# Altium footprint library MainLibrary.PcbLib: 8 footprints
Each footprint in its own frame and in the unit in brackets; x right, y up, seen from the top. Pads: shape width x height; smd on the part's side, far side on the other; paste and mask are expansions set on the pad; w line width, h text height; cw(c..) or ccw(c..) is an arc to the next point about the centre after c.
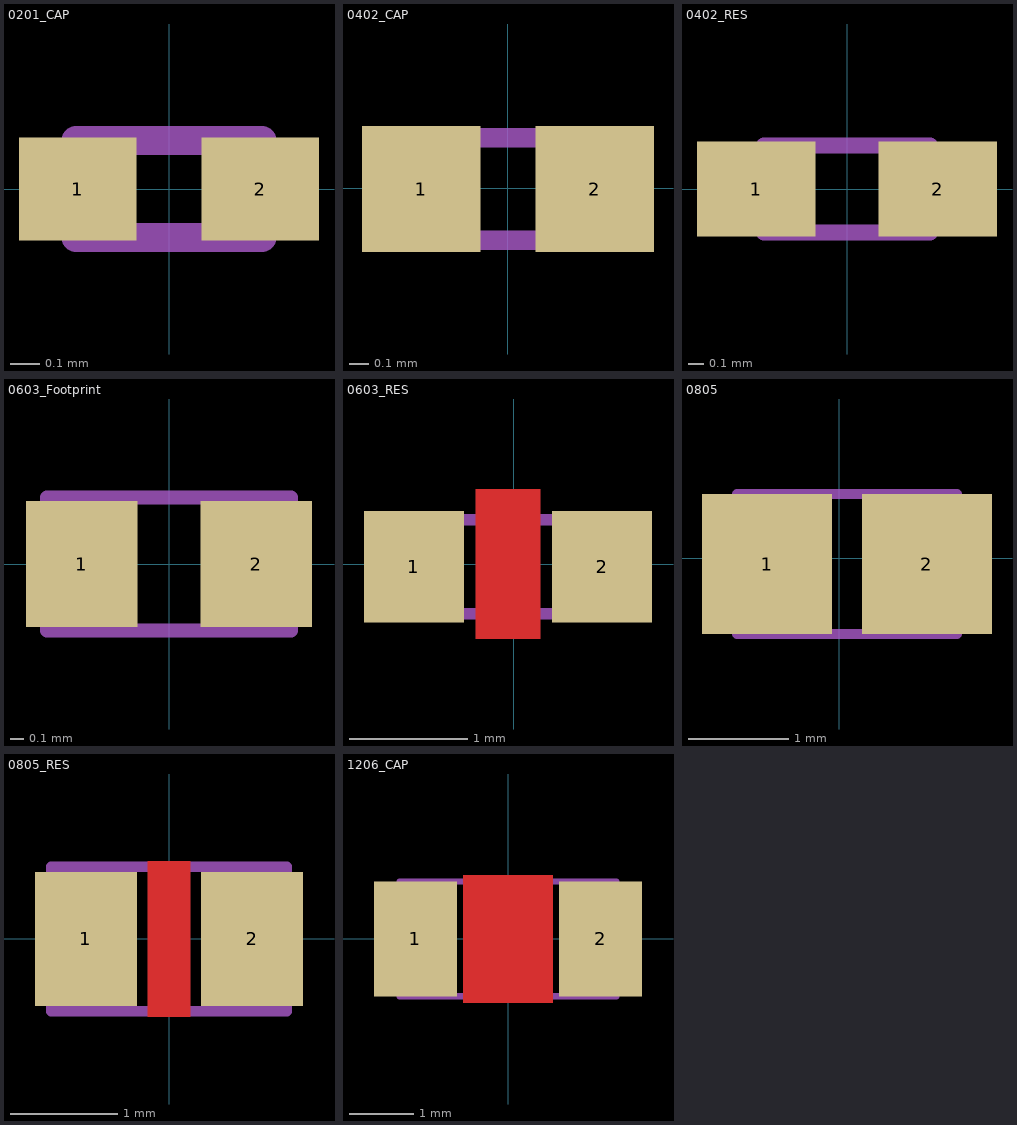
[diagram p0: the footprints below, top view; thin cyan lines are the x and y axes]

## 0201_CAP [mm]
pads (2):
  rect 0.4x0.35 smd: 1(-0.31,0) 2(0.31,0)
Mechanical 13:
  lines w0.1: -0.315,-0.165 0.315,-0.165 0.315,0.165 -0.315,0.165 -0.315,-0.165
3D body "CAP 0201.STEP": height 0.3, standoff 0, extent -0.3,-0.15 0.3,0.15

## 0402_CAP [mm]
pads (2):
  rect 0.6x0.64 smd: 1(-0.44,-0.005) 2(0.44,-0.005)
Mechanical 13:
  lines w0.1: -0.515,-0.265 0.515,-0.265 0.515,0.255 -0.515,0.255 -0.515,-0.265
3D body "0402 cap.STEP": height 0.52, standoff 0, extent -0.5,-0.267 0.5,0.257

## 0402_RES [mm]
pads (2):
  rect 0.75x0.6 smd: 1(-0.575,0) 2(0.575,0)
Mechanical 13:
  lines w0.1: -0.525,-0.275 -0.525,0.275 0.525,0.275 0.525,-0.275 -0.525,-0.275
3D body "0402 resistor.STEP": height 0.35, standoff 0, extent -0.5,-0.25 0.5,0.25

## 0603_Footprint [mm]
pads (2):
  rect 0.8x0.9 smd: 1(-0.625,0) 2(0.625,0)
Mechanical 13:
  lines w0.1: -0.875,-0.475 0.875,-0.475 0.875,0.475 -0.875,0.475 -0.875,-0.475
3D body "0603 cap.STEP": height 0.82, standoff 0, extent -0.8,-0.412 0.8,0.412

## 0603_RES [mm]
pads (2):
  rect 0.85x0.95 smd: 1(-0.85,-0.023) 2(0.75,-0.023)
Top Layer:
  pour cut-out: -0.322,0.635 0.225,0.635 0.225,-0.635 -0.322,-0.635
Mechanical 13:
  lines w0.1: -0.85,-0.423 0.75,-0.423 0.75,0.377 -0.85,0.377 -0.85,-0.423
3D body "0603 resistor.STEP": height 0.45, standoff 0, extent -0.8,-0.4 0.8,0.4

## 0805 [mm]
pads (2):
  rect 1.3x1.4 smd: 1(-0.721,-0.06) 2(0.879,-0.06)
Mechanical 13:
  lines w0.1: -1.021,-0.76 -1.021,0.64 1.179,0.64 1.179,-0.76 -1.021,-0.76
3D body "0805 cap.STEP": height 1.26, standoff -0.02, extent -0.921,-0.697 1.079,0.577

## 0805_RES [mm]
pads (2):
  rect 0.95x1.25 smd: 1(-0.775,0) 2(0.775,0)
Top Layer:
  pour cut-out: -0.197,0.725 0.201,0.725 0.201,-0.726 -0.197,-0.726 -0.199,-0.723
Mechanical 13:
  lines w0.1: -1.1,-0.675 -1.1,0.675 1.1,0.675 1.1,-0.675 -1.1,-0.675
3D body "0805 resistor.STEP": height 0.6, standoff 0, extent -1,-0.625 1,0.625

## 1206_CAP [mm]
pads (2):
  rect 1.3x1.8 smd: 1(-1.45,0) 2(1.45,0)
Top Layer:
  pour cut-out: -0.698,1.001 -0.698,-1 0.697,-1 0.699,-1.002 0.699,1.001
Mechanical 13:
  lines w0.1: -1.7,-0.9 -1.7,0.9 1.7,0.9 1.7,-0.9 -1.7,-0.9
3D body "CAP 1206-0.8mm.STEP": height 0.8, standoff 0, extent -1.6,-0.8 1.6,0.8